# EAGLE library part SMLVN6RGB1 (library rohm-semi)
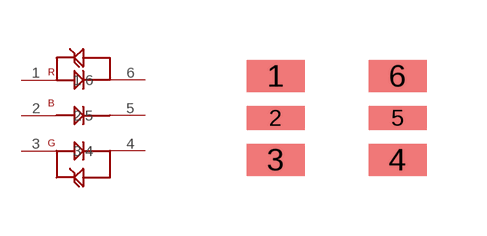
[diagram p1: symbol with the pads of SMLVN6RGB1; footprint SMLVN6RGB1]

Designator prefix -

## SMLVN6RGB1  [SMLVN6RGB1]
1  1
2  2
3  3
4  4
5  5
6  6

## Footprint SMLVN6RGB1 (pad centres in mm)
smd 1.45 x 0.8: 1 0,2.1; 3 0,0; 4 3.05,0; 6 3.05,2.1
smd 1.45 x 0.6: 2 0,1.05; 5 3.05,1.05